# Altium footprint library 2803841.PcbLib: 1 footprints
Each footprint in its own frame and in the unit in brackets; x right, y up, seen from the top. Pads: shape width x height; smd on the part's side, far side on the other; paste and mask are expansions set on the pad; w line width, h text height; cw(c..) or ccw(c..) is an arc to the next point about the centre after c.
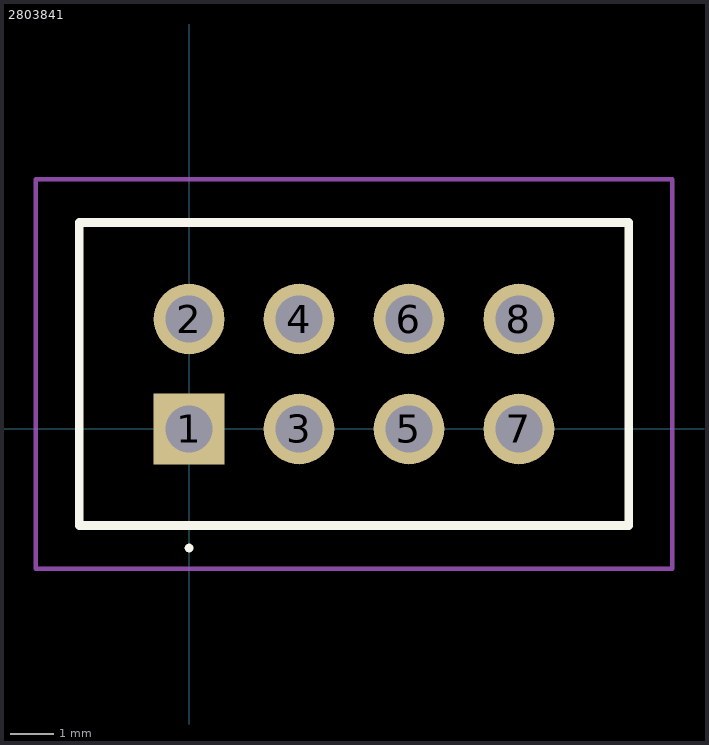
[diagram p0: the footprint, top view; thin cyan lines are the x and y axes]

## 2803841 [mm]
pads (8):
  rect 1.635x1.635 hole 1.09: 1(0,0)
  round 1.635 hole 1.09: 2(0,2.54) 3(2.54,0) 4(2.54,2.54) 5(5.08,0) 6(5.08,2.54) 7(7.62,0) 8(7.62,2.54)
Top Overlay:
  lines w0.1: 0,-2.8 0,-2.8 ; 0,-2.8 ccw(c0,-2.75) 0,-2.7 ; 0,-2.8 cw(c0,-2.75) 0,-2.7 ; 0,-2.7 0,-2.7
  lines w0.2: -2.54,-2.23 10.16,-2.23 10.16,4.77 -2.54,4.77 -2.54,-2.23
Mechanical 15:
  lines w0.1: -2.54,-2.23 10.16,-2.23 10.16,4.77 -2.54,4.77 -2.54,-2.23
Mechanical 20:
  lines w0.1: -3.54,-3.23 11.16,-3.23 11.16,5.77 -3.54,5.77 -3.54,-3.23